# Altium schematic symbol library ADG1439BRUZ.SchLib: 1 symbol
Pins are listed as number, name and electrical type; pins without a type are passive.

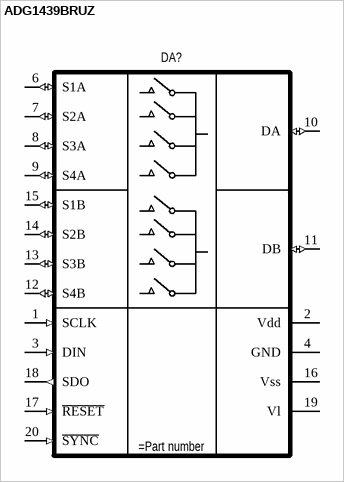
[diagram p0: symbol ADG1439BRUZ]

## ADG1439BRUZ
designator DA?
Serially Controlled, ±15 V/+12 V/±5 V, 8-Channel/4-Channel, iCMOS Multiplexers/Matrix Switches
pins: 1 SCLK (in), 2 Vdd (power), 3 DIN (in), 4 GND (power), 6 S1A (io), 7 S2A (io), 8 S3A (io), 9 S4A (io), 10 DA (io), 11 DB (io), 12 S4B (io), 13 S3B (io), 14 S2B (io), 15 S1B (io), 16 Vss (power), 17 ~{RESET} (in), 18 SDO (out), 19 Vl (power), 20 ~{SYNC} (in)